# Altium schematic symbol library LQH3NPN4R7MMEL.SchLib: 1 symbol
Pins are listed as number, name and electrical type; pins without a type are passive.

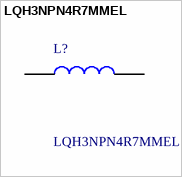
[diagram p0: symbol LQH3NPN4R7MMEL]

## LQH3NPN4R7MMEL
designator L?
LQH3NPN_ME Series Inductor 4.7uH +/-20% 1212 (3030); Manufacturer_Name: Murata Electronics; Geometry.Height: 1.5mm; Mouser Part Number: 81-LQH3NPN4R7MMEL; Mouser Price/Stock: https://www.mouser.co.uk/ProductDetail/Murata-Electronics/LQH3NPN4R7MMEL?qs=sJ5gq5MLFXqkg2Q4z1mYdA%3D%3D; Manufacturer_Part_Number: LQH3NPN4R7MMEL; Datasheet Link: https://search.murata.co.jp/Ceramy/image/img/P02/JELF243A-0153.pdf
footprint LQH3NPN100MMEL
pins: 1, 2